# Altium footprint library 5747844-5.PcbLib: 1 footprints
Each footprint in its own frame and in the unit in brackets; x right, y up, seen from the top. Pads: shape width x height; smd on the part's side, far side on the other; paste and mask are expansions set on the pad; w line width, h text height; cw(c..) or ccw(c..) is an arc to the next point about the centre after c.
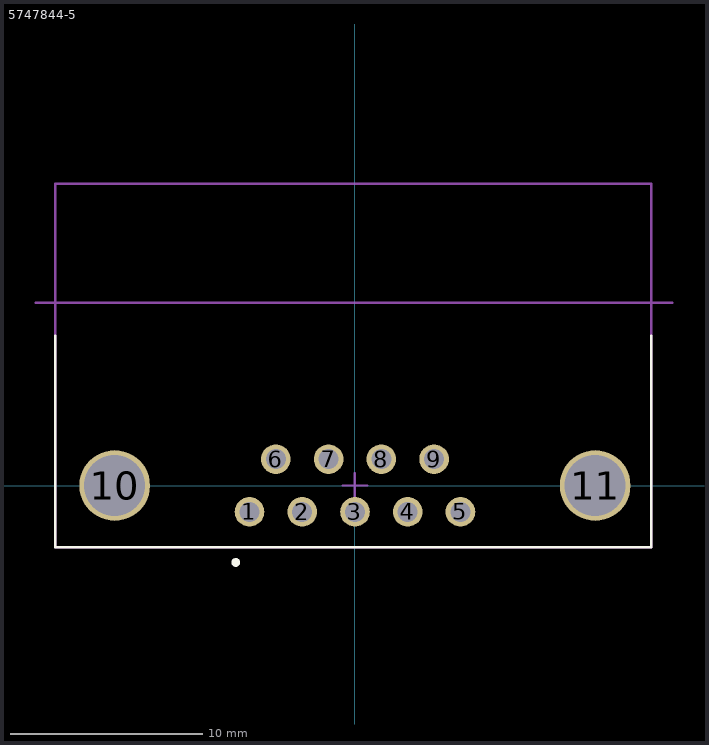
[diagram p0: the footprint, top view; thin cyan lines are the x and y axes]

## 5747844-5 [mil]
height 511
pads (11):
  round 60.69 hole 41 mask+0: 1(-216,-54) 2(-108,-54) 3(0,-54) 4(108,-54) 5(216,-54) 6(-162,54) 7(-54,54) 8(54,54) 9(162,54)
  round 144.69 hole 125 mask+0: 10(-492,0) 11(492,0)
Top Overlay:
  circle w10: c-244.09,-157.48 r3.94
  lines w5: -614.17,307.09 -614.17,-125.98 606.3,-125.98 606.3,307.09
Mechanical 1:
  lines w5: -614.17,-125.98 606.3,-125.98 606.3,618.11 -614.17,618.11 -614.17,-125.98
Mechanical 15:
  lines w5: -653.54,374.02 649.61,374.02 ; -25,0 0,0 ; 0,-25 0,0 ; 0,25 0,0 ; 25,0 0,0
3D body "5747844-5.stp": height 502.47, standoff -119.93, extent -613.7,-125.98 606.3,617.91